# EAGLE library part MD-80SM (library con-cui)
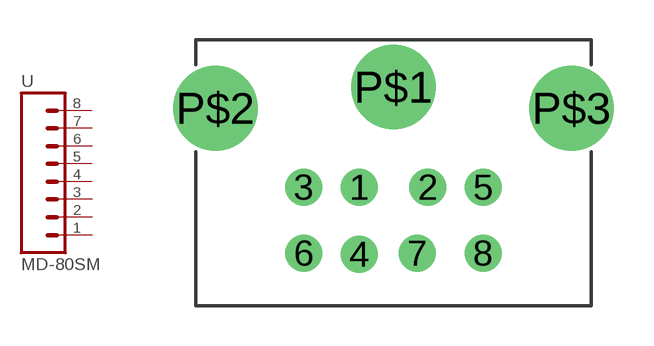
[diagram p2: symbol with the pads of MD-80SM; footprint MD-80SM]

Designator prefix -

## MD-80SM  [MD-80SM]
1  1  pas
2  2  pas
3  3  pas
4  4  pas
5  5  pas
6  6  pas
7  7  pas
8  8  pas

## Footprint MD-80SM (pad centres in mm)
drill 0.9: 1 -1.3,-3.8; 2 1.3,-3.8; 3 -3.4,-3.8; 4 -1.3,-6.34; 5 3.4,-3.8; 6 -3.4,-6.3; 7 0.9,-6.3; 8 3.4,-6.3
drill 2.2: P$1 0,0; P$2 -6.75,-0.8; P$3 6.75,-0.8